# Altium footprint library FINDER 40.31.PcbLib: 1 footprints
Each footprint in its own frame and in the unit in brackets; x right, y up, seen from the top. Pads: shape width x height; smd on the part's side, far side on the other; paste and mask are expansions set on the pad; w line width, h text height; cw(c..) or ccw(c..) is an arc to the next point about the centre after c.
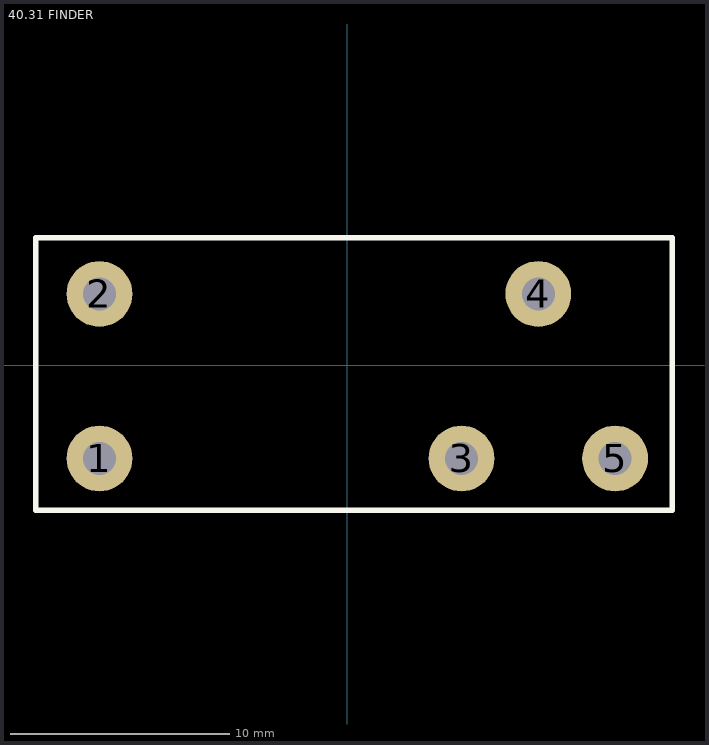
[diagram p0: the footprint, top view; thin cyan lines are the x and y axes]

## 40.31 FINDER [mm] "FINDER RELAY 40.31 12V"
pads (5):
  round 3 hole 1.5: 1(-11.3,-4.25) 2(-11.3,3.25) 3(5.2,-4.25) 4(8.7,3.25) 5(12.2,-4.25)
Top Overlay:
  lines w0.254: 14.788,5.8 -14.2,5.8 -14.2,-6.6 14.8,-6.6 14.8,5.8